# Altium footprint library MOLEX 73412.PcbLib: 1 footprints
Each footprint in its own frame and in the unit in brackets; x right, y up, seen from the top. Pads: shape width x height; smd on the part's side, far side on the other; paste and mask are expansions set on the pad; w line width, h text height; cw(c..) or ccw(c..) is an arc to the next point about the centre after c.
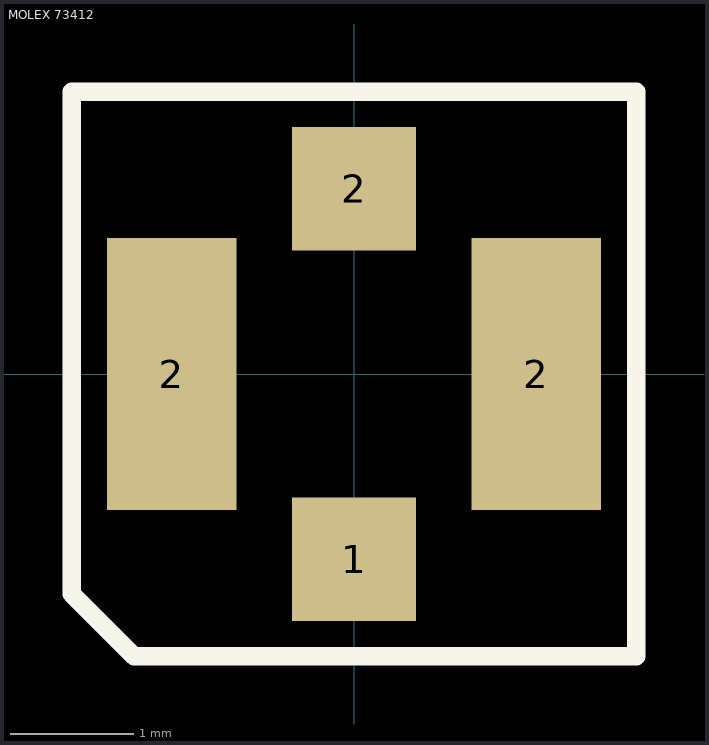
[diagram p0: the footprint, top view; thin cyan lines are the x and y axes]

## MOLEX 73412 [mm]
height 1
pads (4):
  rect 1x1 smd: 1(0,-1.5) 2(0,1.5)
  rect 1.05x2.2 smd: 2(-1.475,0) 2(1.475,0)
Top Overlay:
  lines w0.15: -2.286,-1.778 -1.778,-2.286 2.286,-2.286 2.286,2.286 -2.286,2.286 -2.286,-1.778
3D body "Molex u.fl 734120110.stp": height 1.3, standoff 0, extent -1.5,-1.54 1.5,1.54